# EAGLE library part EL4583CSZ (library Intersil_By_element14_Batch_1)
Sync Separator, 50% Slice, S-H, Filter, HOUT
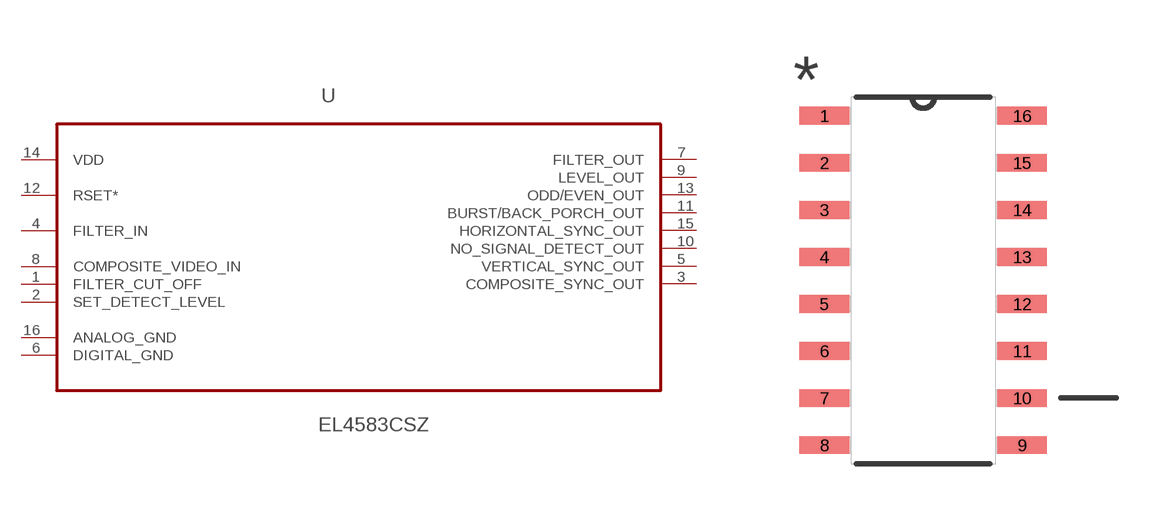
[diagram p57: symbol with the pads of SOIC127P600X172-16N; footprint SOIC127P600X172-16N]

Designator prefix U

## EL4583CSZ (MPN: EL4583CSZ; OC_FARNELL: 1561927; OC_NEWARK: 57K3172; PACKAGE: SOIC-16; SUPPLIER: INTERSIL)  [SOIC127P600X172-16N]
1  FILTER_CUT_OFF  in
2  SET_DETECT_LEVEL  in
3  COMPOSITE_SYNC_OUT  out
4  FILTER_IN  in
5  VERTICAL_SYNC_OUT  out
6  DIGITAL_GND  pas
7  FILTER_OUT  out
8  COMPOSITE_VIDEO_IN  in
9  LEVEL_OUT  out
10  NO_SIGNAL_DETECT_OUT  out
11  BURST/BACK_PORCH_OUT  out
12  RSET*  in
13  ODD/EVEN_OUT  out
14  VDD  pwr
15  HORIZONTAL_SYNC_OUT  out
16  ANALOG_GND  pas

## Footprint SOIC127P600X172-16N (pad centres in mm)
smd 1.346 x 0.483: 1 -2.667,4.445; 2 -2.667,3.175; 3 -2.667,1.905; 4 -2.667,0.635; 5 -2.667,-0.635; 6 -2.667,-1.905; 7 -2.667,-3.175; 8 -2.667,-4.445; 9 2.667,-4.445; 10 2.667,-3.175; 11 2.667,-1.905; 12 2.667,-0.635; 13 2.667,0.635; 14 2.667,1.905; 15 2.667,3.175; 16 2.667,4.445